# EAGLE library part MCP2562 (library MCP2562)
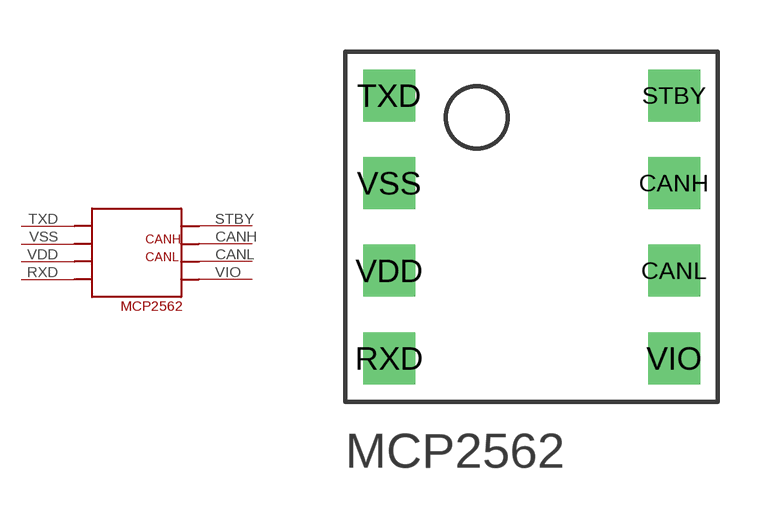
[diagram p0: symbol with the pads of MCP2562; footprint MCP2562]

Designator prefix -

## MCP2562  [MCP2562]
CANH  CANH
CANL  CANL
RXD  RXD
STBY  STBY
TXD  TXD
VDD  VDD
VIO  VIO
VSS  VSS

## Footprint MCP2562 (pad centres in mm)
drill 1 square: CANH 8.255,6.35; CANL 8.255,3.81; RXD 0,1.27; STBY 8.255,8.89; TXD 0,8.89; VDD 0,3.81; VIO 8.255,1.27; VSS 0,6.35